# Altium schematic symbol library 2.0 - STM8 L系列单片机.SchLib: 79 symbols (part 1 of 3)
Pins are listed as number, name and electrical type; pins without a type are passive.

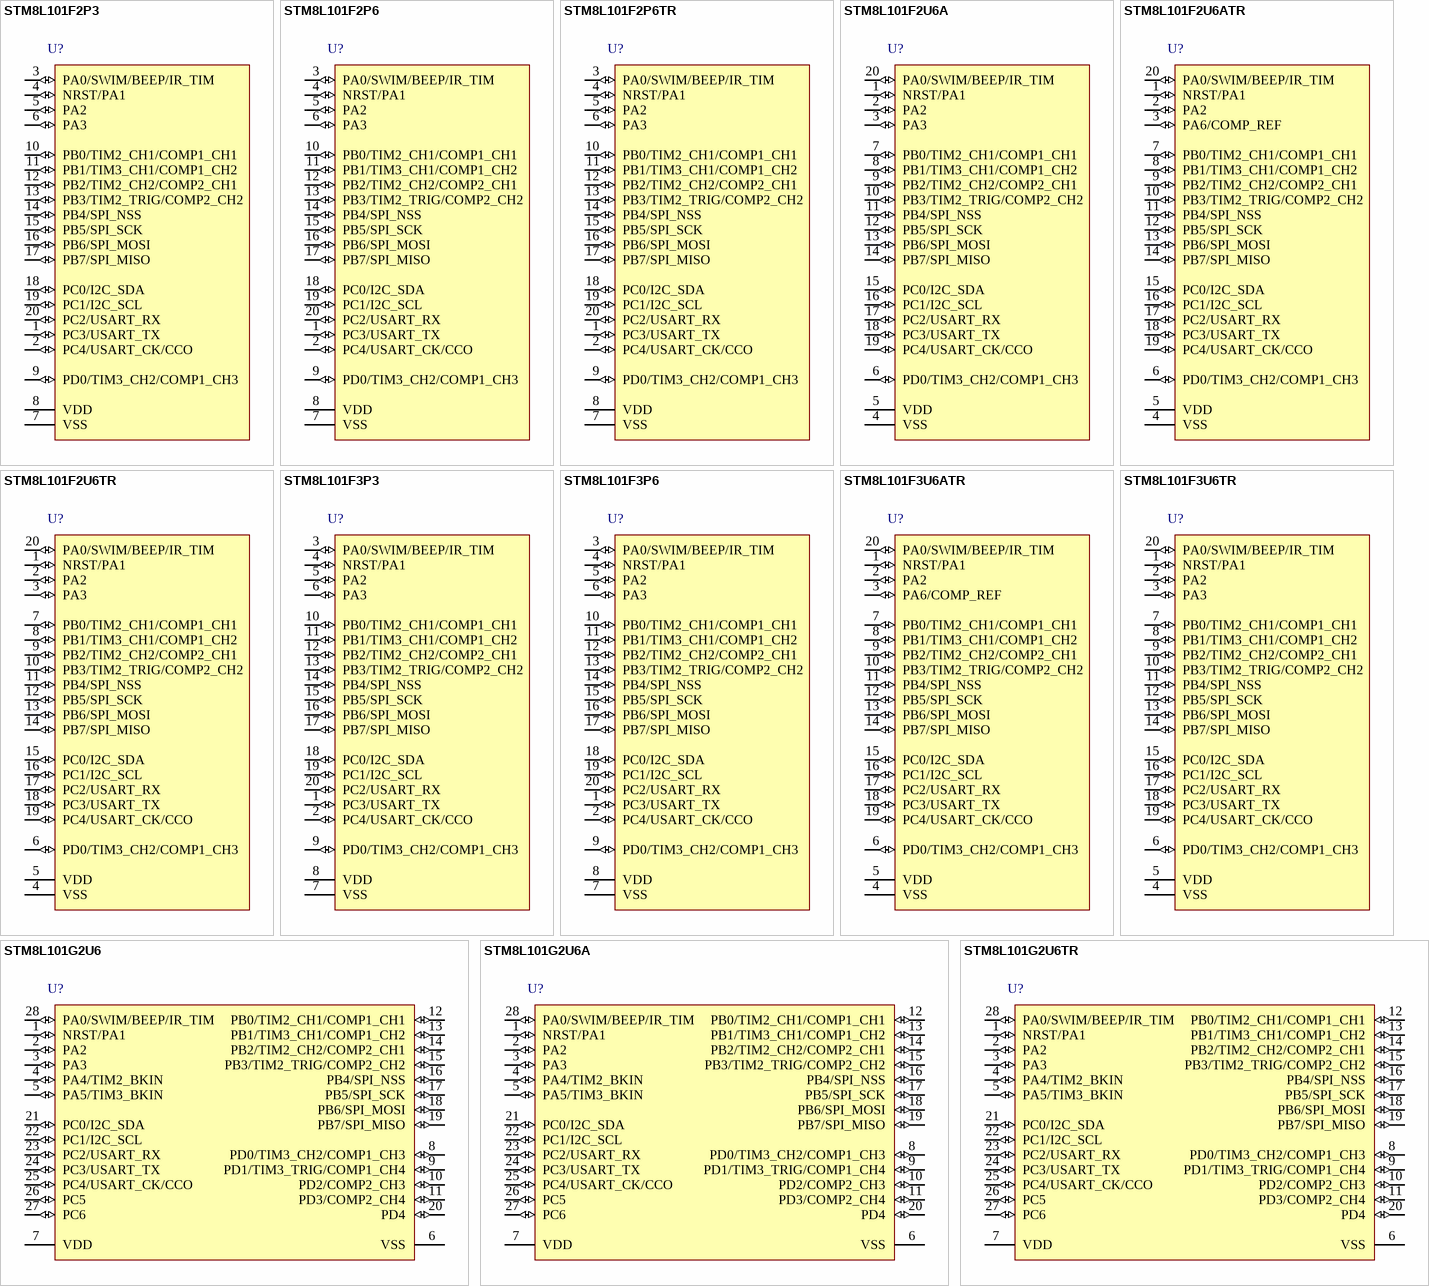
[diagram p0: symbols STM8L101F2P3 to STM8L101G2U6TR]

## STM8L101F2P3
designator U?
STM8L ARM-based EnergyLite 8-bit MCU, 4 kB Flash, 1.5 kB Internal RAM, -40 to +85癈 Temperature, 20-pin TSSOP, Tube; 封装库来自淘宝卖家ID：黄晶宝石: 其他店铺购入均为盗版假冒封装库; PackageVersion: 2010; PackageReference: TSSOP20; PackageDescription: 20-Pin Thin Shrink Small Package Outline 0.65 mm Pitch; ComponentLink1Description: Manufacturer URL; ComponentLink1URL: http://www.st.com/; ComponentLink2Description: STM8L101 Datasheet; ComponentLink2URL: http://www.st.com/internet/com/TECHNICAL_RESOURCES/TECHNICAL_LITERATURE/DATASHEET/CD00220591.pdf; ComponentLink3Description: STM8L Family Web Page; ComponentLink3URL: http://www.st.com/internet/mcu/subclass/1381.jsp
footprint TSSOP20_N (Manufacturer "STMicroelectronics" not found)
footprint TSSOP20_L (TSOP, 20-Leads, Body 6.5x4.4mm, Pitch 0.65mm, IPC High Density)
footprint TSSOP20_M (TSOP, 20-Leads, Body 6.5x4.4mm, Pitch 0.65mm, IPC Low Density)
pins: 1 PC3/USART_TX (io), 2 PC4/USART_CK/CCO (io), 3 PA0/SWIM/BEEP/IR_TIM (io), 4 NRST/PA1 (io), 5 PA2 (io), 6 PA3 (io), 7 VSS (power), 8 VDD (power), 9 PD0/TIM3_CH2/COMP1_CH3 (io), 10 PB0/TIM2_CH1/COMP1_CH1 (io), 11 PB1/TIM3_CH1/COMP1_CH2 (io), 12 PB2/TIM2_CH2/COMP2_CH1 (io), 13 PB3/TIM2_TRIG/COMP2_CH2 (io), 14 PB4/SPI_NSS (io), 15 PB5/SPI_SCK (io), 16 PB6/SPI_MOSI (io), 17 PB7/SPI_MISO (io), 18 PC0/I2C_SDA (io), 19 PC1/I2C_SCL (io), 20 PC2/USART_RX (io)

## STM8L101F2P6
designator U?
STM8L ARM-based EnergyLite 8-bit MCU, 4 kB Flash, 1.5 kB Internal RAM, -40 to +85癈 Temperature, 20-pin TSSOP, Tube; 封装库来自淘宝卖家ID：黄晶宝石: 其他店铺购入均为盗版假冒封装库; PackageVersion: 2010; PackageReference: TSSOP20; PackageDescription: 20-Pin Thin Shrink Small Package Outline 0.65 mm Pitch; ComponentLink1Description: Manufacturer URL; ComponentLink1URL: http://www.st.com/; ComponentLink2Description: STM8L101 Datasheet; ComponentLink2URL: http://www.st.com/internet/com/TECHNICAL_RESOURCES/TECHNICAL_LITERATURE/DATASHEET/CD00220591.pdf; ComponentLink3Description: STM8L Family Web Page; ComponentLink3URL: http://www.st.com/internet/mcu/subclass/1381.jsp
footprint TSSOP20_N (Manufacturer "STMicroelectronics" not found)
footprint TSSOP20_L (TSOP, 20-Leads, Body 6.5x4.4mm, Pitch 0.65mm, IPC High Density)
footprint TSSOP20_M (TSOP, 20-Leads, Body 6.5x4.4mm, Pitch 0.65mm, IPC Low Density)
pins: 1 PC3/USART_TX (io), 2 PC4/USART_CK/CCO (io), 3 PA0/SWIM/BEEP/IR_TIM (io), 4 NRST/PA1 (io), 5 PA2 (io), 6 PA3 (io), 7 VSS (power), 8 VDD (power), 9 PD0/TIM3_CH2/COMP1_CH3 (io), 10 PB0/TIM2_CH1/COMP1_CH1 (io), 11 PB1/TIM3_CH1/COMP1_CH2 (io), 12 PB2/TIM2_CH2/COMP2_CH1 (io), 13 PB3/TIM2_TRIG/COMP2_CH2 (io), 14 PB4/SPI_NSS (io), 15 PB5/SPI_SCK (io), 16 PB6/SPI_MOSI (io), 17 PB7/SPI_MISO (io), 18 PC0/I2C_SDA (io), 19 PC1/I2C_SCL (io), 20 PC2/USART_RX (io)

## STM8L101F2P6TR
designator U?
STM8L ARM-based EnergyLite 8-bit MCU, 4 kB Flash, 1.5 kB Internal RAM, -40 to +85癈 Temperature, 20-pin TSSOP, Tape and Reel; 封装库来自淘宝卖家ID：黄晶宝石: 其他店铺购入均为盗版假冒封装库; PackageVersion: 2010; PackageReference: TSSOP20; PackageDescription: 20-Pin Thin Shrink Small Package Outline 0.65 mm Pitch; ComponentLink1Description: Manufacturer URL; ComponentLink1URL: http://www.st.com/; ComponentLink2Description: STM8L101 Datasheet; ComponentLink2URL: http://www.st.com/internet/com/TECHNICAL_RESOURCES/TECHNICAL_LITERATURE/DATASHEET/CD00220591.pdf; ComponentLink3Description: STM8L Family Web Page; ComponentLink3URL: http://www.st.com/internet/mcu/subclass/1381.jsp
footprint TSSOP20_N (Manufacturer "STMicroelectronics" not found)
footprint TSSOP20_L (TSOP, 20-Leads, Body 6.5x4.4mm, Pitch 0.65mm, IPC High Density)
footprint TSSOP20_M (TSOP, 20-Leads, Body 6.5x4.4mm, Pitch 0.65mm, IPC Low Density)
pins: 1 PC3/USART_TX (io), 2 PC4/USART_CK/CCO (io), 3 PA0/SWIM/BEEP/IR_TIM (io), 4 NRST/PA1 (io), 5 PA2 (io), 6 PA3 (io), 7 VSS (power), 8 VDD (power), 9 PD0/TIM3_CH2/COMP1_CH3 (io), 10 PB0/TIM2_CH1/COMP1_CH1 (io), 11 PB1/TIM3_CH1/COMP1_CH2 (io), 12 PB2/TIM2_CH2/COMP2_CH1 (io), 13 PB3/TIM2_TRIG/COMP2_CH2 (io), 14 PB4/SPI_NSS (io), 15 PB5/SPI_SCK (io), 16 PB6/SPI_MOSI (io), 17 PB7/SPI_MISO (io), 18 PC0/I2C_SDA (io), 19 PC1/I2C_SCL (io), 20 PC2/USART_RX (io)

## STM8L101F2U6A
designator U?
STM8L ARM-based EnergyLite 8-bit MCU, 4 kB Flash, 1.5 kB Internal RAM, -40 to +85癈 Temperature, 20-pin UFQFPN, Tube, COMP_REF available; 封装库来自淘宝卖家ID：黄晶宝石: 其他店铺购入均为盗版假冒封装库; PackageVersion: 26/04/2010; PackageReference: UFQFPN20; PackageDescription: 20-Pin Ultra Thin Fine Pitch Quad Flat No-Lead, 3 x 3 x 0.55 mm Body, 0.5 mm Pitch; ComponentLink1Description: Manufacturer URL; ComponentLink1URL: http://www.st.com/; ComponentLink2Description: STM8L101 Datasheet; ComponentLink2URL: http://www.st.com/internet/com/TECHNICAL_RESOURCES/TECHNICAL_LITERATURE/DATASHEET/CD00220591.pdf; ComponentLink3Description: STM8L Family Web Page; ComponentLink3URL: http://www.st.com/internet/mcu/subclass/1381.jsp
footprint UFQFPN20_V (Manufacturer "STMicroelectronics" not found)
pins: 1 NRST/PA1 (io), 2 PA2 (io), 3 PA3 (io), 4 VSS (power), 5 VDD (power), 6 PD0/TIM3_CH2/COMP1_CH3 (io), 7 PB0/TIM2_CH1/COMP1_CH1 (io), 8 PB1/TIM3_CH1/COMP1_CH2 (io), 9 PB2/TIM2_CH2/COMP2_CH1 (io), 10 PB3/TIM2_TRIG/COMP2_CH2 (io), 11 PB4/SPI_NSS (io), 12 PB5/SPI_SCK (io), 13 PB6/SPI_MOSI (io), 14 PB7/SPI_MISO (io), 15 PC0/I2C_SDA (io), 16 PC1/I2C_SCL (io), 17 PC2/USART_RX (io), 18 PC3/USART_TX (io), 19 PC4/USART_CK/CCO (io), 20 PA0/SWIM/BEEP/IR_TIM (io)

## STM8L101F2U6ATR
designator U?
STM8L ARM-based EnergyLite 8-bit MCU, 4 kB Flash, 1.5 kB Internal RAM, -40 to +85癈 Temperature, 20-pin UFQFPN, Tape and Reel, COMP_REF available; 封装库来自淘宝卖家ID：黄晶宝石: 其他店铺购入均为盗版假冒封装库; PackageVersion: 26/04/2010; PackageReference: UFQFPN20; PackageDescription: 20-Pin Ultra Thin Fine Pitch Quad Flat No-Lead, 3 x 3 x 0.55 mm Body, 0.5 mm Pitch; ComponentLink1Description: Manufacturer URL; ComponentLink1URL: http://www.st.com/; ComponentLink2Description: STM8L101 Datasheet; ComponentLink2URL: http://www.st.com/internet/com/TECHNICAL_RESOURCES/TECHNICAL_LITERATURE/DATASHEET/CD00220591.pdf; ComponentLink3Description: STM8L Family Web Page; ComponentLink3URL: http://www.st.com/internet/mcu/subclass/1381.jsp
footprint UFQFPN20_V (Manufacturer "STMicroelectronics" not found)
pins: 1 NRST/PA1 (io), 2 PA2 (io), 3 PA6/COMP_REF (io), 4 VSS (power), 5 VDD (power), 6 PD0/TIM3_CH2/COMP1_CH3 (io), 7 PB0/TIM2_CH1/COMP1_CH1 (io), 8 PB1/TIM3_CH1/COMP1_CH2 (io), 9 PB2/TIM2_CH2/COMP2_CH1 (io), 10 PB3/TIM2_TRIG/COMP2_CH2 (io), 11 PB4/SPI_NSS (io), 12 PB5/SPI_SCK (io), 13 PB6/SPI_MOSI (io), 14 PB7/SPI_MISO (io), 15 PC0/I2C_SDA (io), 16 PC1/I2C_SCL (io), 17 PC2/USART_RX (io), 18 PC3/USART_TX (io), 19 PC4/USART_CK/CCO (io), 20 PA0/SWIM/BEEP/IR_TIM (io)

## STM8L101F2U6TR
designator U?
STM8L ARM-based EnergyLite 8-bit MCU, 4 kB Flash, 1.5 kB Internal RAM, -40 to +85癈 Temperature, 20-pin UFQFPN, Tape and Reel; 封装库来自淘宝卖家ID：黄晶宝石: 其他店铺购入均为盗版假冒封装库; PackageVersion: 26/04/2010; PackageReference: UFQFPN20; PackageDescription: 20-Pin Ultra Thin Fine Pitch Quad Flat No-Lead, 3 x 3 x 0.55 mm Body, 0.5 mm Pitch; ComponentLink1Description: Manufacturer URL; ComponentLink1URL: http://www.st.com/; ComponentLink2Description: STM8L101 Datasheet; ComponentLink2URL: http://www.st.com/internet/com/TECHNICAL_RESOURCES/TECHNICAL_LITERATURE/DATASHEET/CD00220591.pdf; ComponentLink3Description: STM8L Family Web Page; ComponentLink3URL: http://www.st.com/internet/mcu/subclass/1381.jsp
footprint UFQFPN20_V (Manufacturer "STMicroelectronics" not found)
pins: 1 NRST/PA1 (io), 2 PA2 (io), 3 PA3 (io), 4 VSS (power), 5 VDD (power), 6 PD0/TIM3_CH2/COMP1_CH3 (io), 7 PB0/TIM2_CH1/COMP1_CH1 (io), 8 PB1/TIM3_CH1/COMP1_CH2 (io), 9 PB2/TIM2_CH2/COMP2_CH1 (io), 10 PB3/TIM2_TRIG/COMP2_CH2 (io), 11 PB4/SPI_NSS (io), 12 PB5/SPI_SCK (io), 13 PB6/SPI_MOSI (io), 14 PB7/SPI_MISO (io), 15 PC0/I2C_SDA (io), 16 PC1/I2C_SCL (io), 17 PC2/USART_RX (io), 18 PC3/USART_TX (io), 19 PC4/USART_CK/CCO (io), 20 PA0/SWIM/BEEP/IR_TIM (io)

## STM8L101F3P3
designator U?
STM8L ARM-based EnergyLite 8-bit MCU, 8 kB Flash, 1.5 kB Internal RAM, -40 to +125癈 Temperature, 20-pin TSSOP, Tube; 封装库来自淘宝卖家ID：黄晶宝石: 其他店铺购入均为盗版假冒封装库; PackageVersion: 2010; PackageReference: TSSOP20; PackageDescription: 20-Pin Thin Shrink Small Package Outline 0.65 mm Pitch; ComponentLink1Description: Manufacturer URL; ComponentLink1URL: http://www.st.com/; ComponentLink2Description: STM8L101 Datasheet; ComponentLink2URL: http://www.st.com/internet/com/TECHNICAL_RESOURCES/TECHNICAL_LITERATURE/DATASHEET/CD00220591.pdf; ComponentLink3Description: STM8L Family Web Page; ComponentLink3URL: http://www.st.com/internet/mcu/subclass/1381.jsp
footprint TSSOP20_N (Manufacturer "STMicroelectronics" not found)
footprint TSSOP20_L (TSOP, 20-Leads, Body 6.5x4.4mm, Pitch 0.65mm, IPC High Density)
footprint TSSOP20_M (TSOP, 20-Leads, Body 6.5x4.4mm, Pitch 0.65mm, IPC Low Density)
pins: 1 PC3/USART_TX (io), 2 PC4/USART_CK/CCO (io), 3 PA0/SWIM/BEEP/IR_TIM (io), 4 NRST/PA1 (io), 5 PA2 (io), 6 PA3 (io), 7 VSS (power), 8 VDD (power), 9 PD0/TIM3_CH2/COMP1_CH3 (io), 10 PB0/TIM2_CH1/COMP1_CH1 (io), 11 PB1/TIM3_CH1/COMP1_CH2 (io), 12 PB2/TIM2_CH2/COMP2_CH1 (io), 13 PB3/TIM2_TRIG/COMP2_CH2 (io), 14 PB4/SPI_NSS (io), 15 PB5/SPI_SCK (io), 16 PB6/SPI_MOSI (io), 17 PB7/SPI_MISO (io), 18 PC0/I2C_SDA (io), 19 PC1/I2C_SCL (io), 20 PC2/USART_RX (io)

## STM8L101F3P6
designator U?
STM8L ARM-based EnergyLite 8-bit MCU, 8 kB Flash, 1.5 kB Internal RAM, -40 to +85癈 Temperature, 20-pin TSSOP, Tube; 封装库来自淘宝卖家ID：黄晶宝石: 其他店铺购入均为盗版假冒封装库; PackageVersion: 2010; PackageReference: TSSOP20; PackageDescription: 20-Pin Thin Shrink Small Package Outline 0.65 mm Pitch; ComponentLink1Description: Manufacturer URL; ComponentLink1URL: http://www.st.com/; ComponentLink2Description: STM8L101 Datasheet; ComponentLink2URL: http://www.st.com/internet/com/TECHNICAL_RESOURCES/TECHNICAL_LITERATURE/DATASHEET/CD00220591.pdf; ComponentLink3Description: STM8L Family Web Page; ComponentLink3URL: http://www.st.com/internet/mcu/subclass/1381.jsp
footprint TSSOP20_N (Manufacturer "STMicroelectronics" not found)
footprint TSSOP20_L (TSOP, 20-Leads, Body 6.5x4.4mm, Pitch 0.65mm, IPC High Density)
footprint TSSOP20_M (TSOP, 20-Leads, Body 6.5x4.4mm, Pitch 0.65mm, IPC Low Density)
pins: 1 PC3/USART_TX (io), 2 PC4/USART_CK/CCO (io), 3 PA0/SWIM/BEEP/IR_TIM (io), 4 NRST/PA1 (io), 5 PA2 (io), 6 PA3 (io), 7 VSS (power), 8 VDD (power), 9 PD0/TIM3_CH2/COMP1_CH3 (io), 10 PB0/TIM2_CH1/COMP1_CH1 (io), 11 PB1/TIM3_CH1/COMP1_CH2 (io), 12 PB2/TIM2_CH2/COMP2_CH1 (io), 13 PB3/TIM2_TRIG/COMP2_CH2 (io), 14 PB4/SPI_NSS (io), 15 PB5/SPI_SCK (io), 16 PB6/SPI_MOSI (io), 17 PB7/SPI_MISO (io), 18 PC0/I2C_SDA (io), 19 PC1/I2C_SCL (io), 20 PC2/USART_RX (io)

## STM8L101F3U6ATR
designator U?
STM8L ARM-based EnergyLite 8-bit MCU, 8 kB Flash, 1.5 kB Internal RAM, -40 to +85癈 Temperature, 20-pin UFQFPN, Tape and Reel, COMP_REF available; 封装库来自淘宝卖家ID：黄晶宝石: 其他店铺购入均为盗版假冒封装库; PackageVersion: 26/04/2010; PackageReference: UFQFPN20; PackageDescription: 20-Pin Ultra Thin Fine Pitch Quad Flat No-Lead, 3 x 3 x 0.55 mm Body, 0.5 mm Pitch; ComponentLink1Description: Manufacturer URL; ComponentLink1URL: http://www.st.com/; ComponentLink2Description: STM8L101 Datasheet; ComponentLink2URL: http://www.st.com/internet/com/TECHNICAL_RESOURCES/TECHNICAL_LITERATURE/DATASHEET/CD00220591.pdf; ComponentLink3Description: STM8L Family Web Page; ComponentLink3URL: http://www.st.com/internet/mcu/subclass/1381.jsp
footprint UFQFPN20_V (Manufacturer "STMicroelectronics" not found)
pins: 1 NRST/PA1 (io), 2 PA2 (io), 3 PA6/COMP_REF (io), 4 VSS (power), 5 VDD (power), 6 PD0/TIM3_CH2/COMP1_CH3 (io), 7 PB0/TIM2_CH1/COMP1_CH1 (io), 8 PB1/TIM3_CH1/COMP1_CH2 (io), 9 PB2/TIM2_CH2/COMP2_CH1 (io), 10 PB3/TIM2_TRIG/COMP2_CH2 (io), 11 PB4/SPI_NSS (io), 12 PB5/SPI_SCK (io), 13 PB6/SPI_MOSI (io), 14 PB7/SPI_MISO (io), 15 PC0/I2C_SDA (io), 16 PC1/I2C_SCL (io), 17 PC2/USART_RX (io), 18 PC3/USART_TX (io), 19 PC4/USART_CK/CCO (io), 20 PA0/SWIM/BEEP/IR_TIM (io)

## STM8L101F3U6TR
designator U?
STM8L ARM-based EnergyLite 8-bit MCU, 8 kB Flash, 1.5 kB Internal RAM, -40 to +85癈 Temperature, 20-pin UFQFPN, Tape and Reel; 封装库来自淘宝卖家ID：黄晶宝石: 其他店铺购入均为盗版假冒封装库; PackageVersion: 26/04/2010; PackageReference: UFQFPN20; PackageDescription: 20-Pin Ultra Thin Fine Pitch Quad Flat No-Lead, 3 x 3 x 0.55 mm Body, 0.5 mm Pitch; ComponentLink1Description: Manufacturer URL; ComponentLink1URL: http://www.st.com/; ComponentLink2Description: STM8L101 Datasheet; ComponentLink2URL: http://www.st.com/internet/com/TECHNICAL_RESOURCES/TECHNICAL_LITERATURE/DATASHEET/CD00220591.pdf; ComponentLink3Description: STM8L Family Web Page; ComponentLink3URL: http://www.st.com/internet/mcu/subclass/1381.jsp
footprint UFQFPN20_V (Manufacturer "STMicroelectronics" not found)
pins: 1 NRST/PA1 (io), 2 PA2 (io), 3 PA3 (io), 4 VSS (power), 5 VDD (power), 6 PD0/TIM3_CH2/COMP1_CH3 (io), 7 PB0/TIM2_CH1/COMP1_CH1 (io), 8 PB1/TIM3_CH1/COMP1_CH2 (io), 9 PB2/TIM2_CH2/COMP2_CH1 (io), 10 PB3/TIM2_TRIG/COMP2_CH2 (io), 11 PB4/SPI_NSS (io), 12 PB5/SPI_SCK (io), 13 PB6/SPI_MOSI (io), 14 PB7/SPI_MISO (io), 15 PC0/I2C_SDA (io), 16 PC1/I2C_SCL (io), 17 PC2/USART_RX (io), 18 PC3/USART_TX (io), 19 PC4/USART_CK/CCO (io), 20 PA0/SWIM/BEEP/IR_TIM (io)

## STM8L101G2U6
designator U?
STM8L ARM-based EnergyLite 8-bit MCU, 4 kB Flash, 1.5 kB Internal RAM, -40 to +85癈 Temperature, 28-pin UFQFPN, Tray; 封装库来自淘宝卖家ID：黄晶宝石: 其他店铺购入均为盗版假冒封装库; PackageVersion: 26/04/2010; PackageReference: UFQFPN28; PackageDescription: 28-Pin Ultra Thin Fine Pitch Quad Flat No-Lead, 4 x 4 x 0.55 mm Body, 0.5 mm Pitch; ComponentLink1Description: Manufacturer URL; ComponentLink1URL: http://www.st.com/; ComponentLink2Description: STM8L101 Datasheet; ComponentLink2URL: http://www.st.com/internet/com/TECHNICAL_RESOURCES/TECHNICAL_LITERATURE/DATASHEET/CD00220591.pdf; ComponentLink3Description: STM8L Family Web Page; ComponentLink3URL: http://www.st.com/internet/mcu/subclass/1381.jsp
footprint UFQFPN28_V (Manufacturer "STMicroelectronics" not found)
pins: 1 NRST/PA1 (io), 2 PA2 (io), 3 PA3 (io), 4 PA4/TIM2_BKIN (io), 5 PA5/TIM3_BKIN (io), 6 VSS (power), 7 VDD (power), 8 PD0/TIM3_CH2/COMP1_CH3 (io), 9 PD1/TIM3_TRIG/COMP1_CH4 (io), 10 PD2/COMP2_CH3 (io), 11 PD3/COMP2_CH4 (io), 12 PB0/TIM2_CH1/COMP1_CH1 (io), 13 PB1/TIM3_CH1/COMP1_CH2 (io), 14 PB2/TIM2_CH2/COMP2_CH1 (io), 15 PB3/TIM2_TRIG/COMP2_CH2 (io), 16 PB4/SPI_NSS (io), 17 PB5/SPI_SCK (io), 18 PB6/SPI_MOSI (io), 19 PB7/SPI_MISO (io), 20 PD4 (io), 21 PC0/I2C_SDA (io), 22 PC1/I2C_SCL (io), 23 PC2/USART_RX (io), 24 PC3/USART_TX (io), 25 PC4/USART_CK/CCO (io), 26 PC5 (io), 27 PC6 (io), 28 PA0/SWIM/BEEP/IR_TIM (io)

## STM8L101G2U6A
designator U?
STM8L ARM-based EnergyLite 8-bit MCU, 4 kB Flash, 1.5 kB Internal RAM, -40 to +85癈 Temperature, 28-pin UFQFPN, Tray, COMP_REF available; 封装库来自淘宝卖家ID：黄晶宝石: 其他店铺购入均为盗版假冒封装库; PackageVersion: 26/04/2010; PackageReference: UFQFPN28; PackageDescription: 28-Pin Ultra Thin Fine Pitch Quad Flat No-Lead, 4 x 4 x 0.55 mm Body, 0.5 mm Pitch; ComponentLink1Description: Manufacturer URL; ComponentLink1URL: http://www.st.com/; ComponentLink2Description: STM8L101 Datasheet; ComponentLink2URL: http://www.st.com/internet/com/TECHNICAL_RESOURCES/TECHNICAL_LITERATURE/DATASHEET/CD00220591.pdf; ComponentLink3Description: STM8L Family Web Page; ComponentLink3URL: http://www.st.com/internet/mcu/subclass/1381.jsp
footprint UFQFPN28_V (Manufacturer "STMicroelectronics" not found)
pins: 1 NRST/PA1 (io), 2 PA2 (io), 3 PA3 (io), 4 PA4/TIM2_BKIN (io), 5 PA5/TIM3_BKIN (io), 6 VSS (power), 7 VDD (power), 8 PD0/TIM3_CH2/COMP1_CH3 (io), 9 PD1/TIM3_TRIG/COMP1_CH4 (io), 10 PD2/COMP2_CH3 (io), 11 PD3/COMP2_CH4 (io), 12 PB0/TIM2_CH1/COMP1_CH1 (io), 13 PB1/TIM3_CH1/COMP1_CH2 (io), 14 PB2/TIM2_CH2/COMP2_CH1 (io), 15 PB3/TIM2_TRIG/COMP2_CH2 (io), 16 PB4/SPI_NSS (io), 17 PB5/SPI_SCK (io), 18 PB6/SPI_MOSI (io), 19 PB7/SPI_MISO (io), 20 PD4 (io), 21 PC0/I2C_SDA (io), 22 PC1/I2C_SCL (io), 23 PC2/USART_RX (io), 24 PC3/USART_TX (io), 25 PC4/USART_CK/CCO (io), 26 PC5 (io), 27 PC6 (io), 28 PA0/SWIM/BEEP/IR_TIM (io)

## STM8L101G2U6TR
designator U?
STM8L ARM-based EnergyLite 8-bit MCU, 4 kB Flash, 1.5 kB Internal RAM, -40 to +85癈 Temperature, 28-pin UFQFPN, Tape and Reel; 封装库来自淘宝卖家ID：黄晶宝石: 其他店铺购入均为盗版假冒封装库; PackageVersion: 26/04/2010; PackageReference: UFQFPN28; PackageDescription: 28-Pin Ultra Thin Fine Pitch Quad Flat No-Lead, 4 x 4 x 0.55 mm Body, 0.5 mm Pitch; ComponentLink1Description: Manufacturer URL; ComponentLink1URL: http://www.st.com/; ComponentLink2Description: STM8L101 Datasheet; ComponentLink2URL: http://www.st.com/internet/com/TECHNICAL_RESOURCES/TECHNICAL_LITERATURE/DATASHEET/CD00220591.pdf; ComponentLink3Description: STM8L Family Web Page; ComponentLink3URL: http://www.st.com/internet/mcu/subclass/1381.jsp
footprint UFQFPN28_V (Manufacturer "STMicroelectronics" not found)
pins: 1 NRST/PA1 (io), 2 PA2 (io), 3 PA3 (io), 4 PA4/TIM2_BKIN (io), 5 PA5/TIM3_BKIN (io), 6 VSS (power), 7 VDD (power), 8 PD0/TIM3_CH2/COMP1_CH3 (io), 9 PD1/TIM3_TRIG/COMP1_CH4 (io), 10 PD2/COMP2_CH3 (io), 11 PD3/COMP2_CH4 (io), 12 PB0/TIM2_CH1/COMP1_CH1 (io), 13 PB1/TIM3_CH1/COMP1_CH2 (io), 14 PB2/TIM2_CH2/COMP2_CH1 (io), 15 PB3/TIM2_TRIG/COMP2_CH2 (io), 16 PB4/SPI_NSS (io), 17 PB5/SPI_SCK (io), 18 PB6/SPI_MOSI (io), 19 PB7/SPI_MISO (io), 20 PD4 (io), 21 PC0/I2C_SDA (io), 22 PC1/I2C_SCL (io), 23 PC2/USART_RX (io), 24 PC3/USART_TX (io), 25 PC4/USART_CK/CCO (io), 26 PC5 (io), 27 PC6 (io), 28 PA0/SWIM/BEEP/IR_TIM (io)

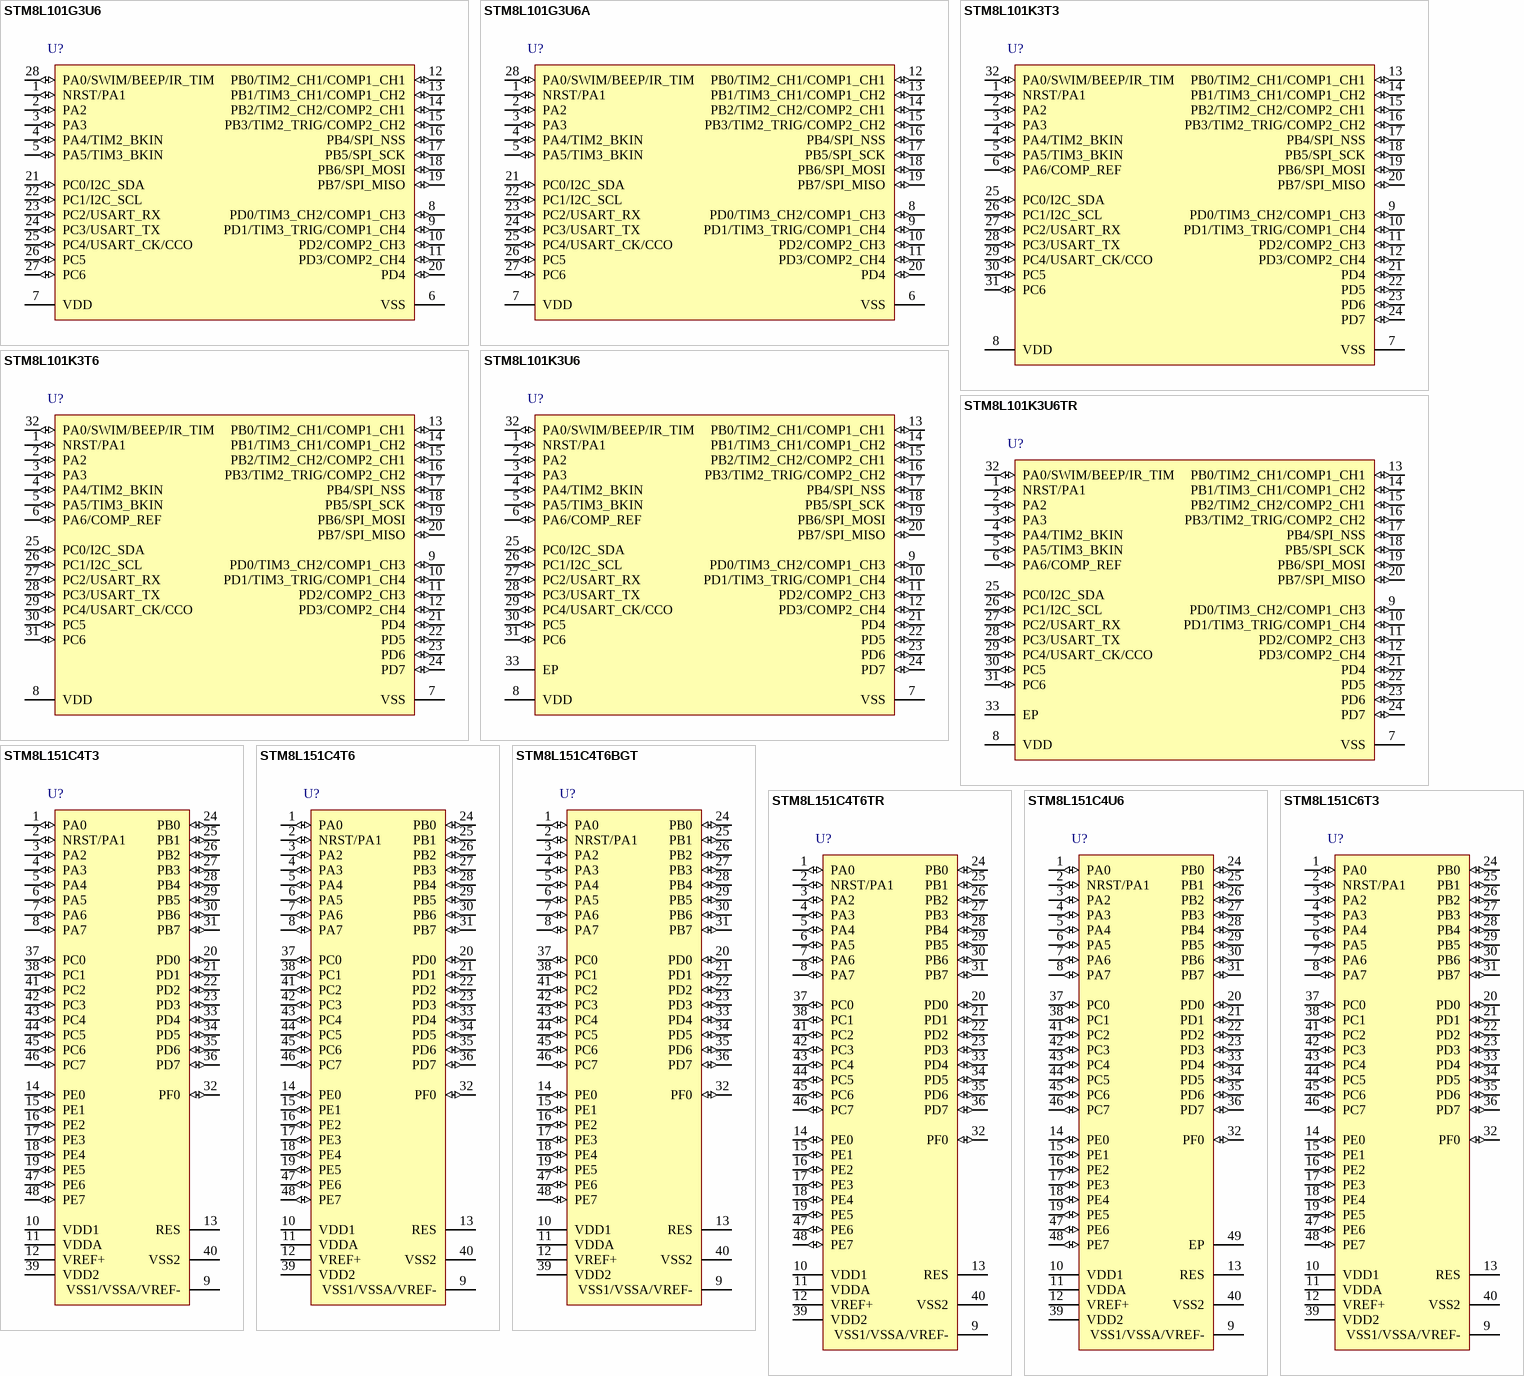
[diagram p1: symbols STM8L101G3U6 to STM8L151C6T3]

## STM8L101G3U6
designator U?
STM8L ARM-based EnergyLite 8-bit MCU, 8 kB Flash, 1.5 kB Internal RAM, -40 to +85癈 Temperature, 28-pin UFQFPN, Tray; 封装库来自淘宝卖家ID：黄晶宝石: 其他店铺购入均为盗版假冒封装库; PackageVersion: 26/04/2010; PackageReference: UFQFPN28; PackageDescription: 28-Pin Ultra Thin Fine Pitch Quad Flat No-Lead, 4 x 4 x 0.55 mm Body, 0.5 mm Pitch; ComponentLink1Description: Manufacturer URL; ComponentLink1URL: http://www.st.com/; ComponentLink2Description: STM8L101 Datasheet; ComponentLink2URL: http://www.st.com/internet/com/TECHNICAL_RESOURCES/TECHNICAL_LITERATURE/DATASHEET/CD00220591.pdf; ComponentLink3Description: STM8L Family Web Page; ComponentLink3URL: http://www.st.com/internet/mcu/subclass/1381.jsp
footprint UFQFPN28_V (Manufacturer "STMicroelectronics" not found)
pins: 1 NRST/PA1 (io), 2 PA2 (io), 3 PA3 (io), 4 PA4/TIM2_BKIN (io), 5 PA5/TIM3_BKIN (io), 6 VSS (power), 7 VDD (power), 8 PD0/TIM3_CH2/COMP1_CH3 (io), 9 PD1/TIM3_TRIG/COMP1_CH4 (io), 10 PD2/COMP2_CH3 (io), 11 PD3/COMP2_CH4 (io), 12 PB0/TIM2_CH1/COMP1_CH1 (io), 13 PB1/TIM3_CH1/COMP1_CH2 (io), 14 PB2/TIM2_CH2/COMP2_CH1 (io), 15 PB3/TIM2_TRIG/COMP2_CH2 (io), 16 PB4/SPI_NSS (io), 17 PB5/SPI_SCK (io), 18 PB6/SPI_MOSI (io), 19 PB7/SPI_MISO (io), 20 PD4 (io), 21 PC0/I2C_SDA (io), 22 PC1/I2C_SCL (io), 23 PC2/USART_RX (io), 24 PC3/USART_TX (io), 25 PC4/USART_CK/CCO (io), 26 PC5 (io), 27 PC6 (io), 28 PA0/SWIM/BEEP/IR_TIM (io)

## STM8L101G3U6A
designator U?
STM8L ARM-based EnergyLite 8-bit MCU, 8 kB Flash, 1.5 kB Internal RAM, -40 to +85癈 Temperature, 28-pin UFQFPN, Tray, COMP_REF available; 封装库来自淘宝卖家ID：黄晶宝石: 其他店铺购入均为盗版假冒封装库; PackageVersion: 26/04/2010; PackageReference: UFQFPN28; PackageDescription: 28-Pin Ultra Thin Fine Pitch Quad Flat No-Lead, 4 x 4 x 0.55 mm Body, 0.5 mm Pitch; ComponentLink1Description: Manufacturer URL; ComponentLink1URL: http://www.st.com/; ComponentLink2Description: STM8L101 Datasheet; ComponentLink2URL: http://www.st.com/internet/com/TECHNICAL_RESOURCES/TECHNICAL_LITERATURE/DATASHEET/CD00220591.pdf; ComponentLink3Description: STM8L Family Web Page; ComponentLink3URL: http://www.st.com/internet/mcu/subclass/1381.jsp
footprint UFQFPN28_V (Manufacturer "STMicroelectronics" not found)
pins: 1 NRST/PA1 (io), 2 PA2 (io), 3 PA3 (io), 4 PA4/TIM2_BKIN (io), 5 PA5/TIM3_BKIN (io), 6 VSS (power), 7 VDD (power), 8 PD0/TIM3_CH2/COMP1_CH3 (io), 9 PD1/TIM3_TRIG/COMP1_CH4 (io), 10 PD2/COMP2_CH3 (io), 11 PD3/COMP2_CH4 (io), 12 PB0/TIM2_CH1/COMP1_CH1 (io), 13 PB1/TIM3_CH1/COMP1_CH2 (io), 14 PB2/TIM2_CH2/COMP2_CH1 (io), 15 PB3/TIM2_TRIG/COMP2_CH2 (io), 16 PB4/SPI_NSS (io), 17 PB5/SPI_SCK (io), 18 PB6/SPI_MOSI (io), 19 PB7/SPI_MISO (io), 20 PD4 (io), 21 PC0/I2C_SDA (io), 22 PC1/I2C_SCL (io), 23 PC2/USART_RX (io), 24 PC3/USART_TX (io), 25 PC4/USART_CK/CCO (io), 26 PC5 (io), 27 PC6 (io), 28 PA0/SWIM/BEEP/IR_TIM (io)

## STM8L101K3T3
designator U?
STM8L ARM-based EnergyLite 8-bit MCU, 8 kB Flash, 1.5 kB Internal RAM, -40 to +125癈 Temperature, 32-pin LQFP, Tray; 封装库来自淘宝卖家ID：黄晶宝石: 其他店铺购入均为盗版假冒封装库; PackageVersion: 2010; PackageReference: LQFP32; PackageDescription: 32-Pin Low Profile Quad Flat Pack, 7 x 7 mm Body, 0.8 mm Pitch; ComponentLink1Description: Manufacturer URL; ComponentLink1URL: http://www.st.com/; ComponentLink2Description: STM8L101 Datasheet; ComponentLink2URL: http://www.st.com/internet/com/TECHNICAL_RESOURCES/TECHNICAL_LITERATURE/DATASHEET/CD00220591.pdf; ComponentLink3Description: STM8L Family Web Page; ComponentLink3URL: http://www.st.com/internet/mcu/subclass/1381.jsp
footprint LQFP32_N (Manufacturer "STMicroelectronics" not found)
footprint LQFP32_L (Thin QFP, 32-Leads, Body 7x7mm, Pitch 0.8mm, IPC High Density)
footprint LQFP32_M (Thin QFP, 32-Leads, Body 7x7mm, Pitch 0.8mm, IPC Low Density)
pins: 1 NRST/PA1 (io), 2 PA2 (io), 3 PA3 (io), 4 PA4/TIM2_BKIN (io), 5 PA5/TIM3_BKIN (io), 6 PA6/COMP_REF (io), 7 VSS (power), 8 VDD (power), 9 PD0/TIM3_CH2/COMP1_CH3 (io), 10 PD1/TIM3_TRIG/COMP1_CH4 (io), 11 PD2/COMP2_CH3 (io), 12 PD3/COMP2_CH4 (io), 13 PB0/TIM2_CH1/COMP1_CH1 (io), 14 PB1/TIM3_CH1/COMP1_CH2 (io), 15 PB2/TIM2_CH2/COMP2_CH1 (io), 16 PB3/TIM2_TRIG/COMP2_CH2 (io), 17 PB4/SPI_NSS (io), 18 PB5/SPI_SCK (io), 19 PB6/SPI_MOSI (io), 20 PB7/SPI_MISO (io), 21 PD4 (io), 22 PD5 (io), 23 PD6 (io), 24 PD7 (io), 25 PC0/I2C_SDA (io), 26 PC1/I2C_SCL (io), 27 PC2/USART_RX (io), 28 PC3/USART_TX (io), 29 PC4/USART_CK/CCO (io), 30 PC5 (io), 31 PC6 (io), 32 PA0/SWIM/BEEP/IR_TIM (io)

## STM8L101K3T6
designator U?
STM8L ARM-based EnergyLite 8-bit MCU, 8 kB Flash, 1.5 kB Internal RAM, -40 to +85癈 Temperature, 32-pin LQFP, Tray; 封装库来自淘宝卖家ID：黄晶宝石: 其他店铺购入均为盗版假冒封装库; PackageVersion: 2010; PackageReference: LQFP32; PackageDescription: 32-Pin Low Profile Quad Flat Pack, 7 x 7 mm Body, 0.8 mm Pitch; ComponentLink1Description: Manufacturer URL; ComponentLink1URL: http://www.st.com/; ComponentLink2Description: STM8L101 Datasheet; ComponentLink2URL: http://www.st.com/internet/com/TECHNICAL_RESOURCES/TECHNICAL_LITERATURE/DATASHEET/CD00220591.pdf; ComponentLink3Description: STM8L Family Web Page; ComponentLink3URL: http://www.st.com/internet/mcu/subclass/1381.jsp
footprint LQFP32_N (Manufacturer "STMicroelectronics" not found)
footprint LQFP32_L (Thin QFP, 32-Leads, Body 7x7mm, Pitch 0.8mm, IPC High Density)
footprint LQFP32_M (Thin QFP, 32-Leads, Body 7x7mm, Pitch 0.8mm, IPC Low Density)
pins: 1 NRST/PA1 (io), 2 PA2 (io), 3 PA3 (io), 4 PA4/TIM2_BKIN (io), 5 PA5/TIM3_BKIN (io), 6 PA6/COMP_REF (io), 7 VSS (power), 8 VDD (power), 9 PD0/TIM3_CH2/COMP1_CH3 (io), 10 PD1/TIM3_TRIG/COMP1_CH4 (io), 11 PD2/COMP2_CH3 (io), 12 PD3/COMP2_CH4 (io), 13 PB0/TIM2_CH1/COMP1_CH1 (io), 14 PB1/TIM3_CH1/COMP1_CH2 (io), 15 PB2/TIM2_CH2/COMP2_CH1 (io), 16 PB3/TIM2_TRIG/COMP2_CH2 (io), 17 PB4/SPI_NSS (io), 18 PB5/SPI_SCK (io), 19 PB6/SPI_MOSI (io), 20 PB7/SPI_MISO (io), 21 PD4 (io), 22 PD5 (io), 23 PD6 (io), 24 PD7 (io), 25 PC0/I2C_SDA (io), 26 PC1/I2C_SCL (io), 27 PC2/USART_RX (io), 28 PC3/USART_TX (io), 29 PC4/USART_CK/CCO (io), 30 PC5 (io), 31 PC6 (io), 32 PA0/SWIM/BEEP/IR_TIM (io)

## STM8L101K3U6
designator U?
STM8L ARM-based EnergyLite 8-bit MCU, 8 kB Flash, 1.5 kB Internal RAM, -40 to +85癈 Temperature, 32-pin UFQFPN, Tray; 封装库来自淘宝卖家ID：黄晶宝石: 其他店铺购入均为盗版假冒封装库; PackageVersion: 2010; PackageReference: UFQFPN32; PackageDescription: 32-Pin Ultra Thin Fine Pitch Quad Flat No-Lead, 5 x 5 X 0.6 mm Body, 0.5 mm Pitch, Exposed Pad; ComponentLink1Description: Manufacturer URL; ComponentLink1URL: http://www.st.com/; ComponentLink2Description: STM8L101 Datasheet; ComponentLink2URL: http://www.st.com/internet/com/TECHNICAL_RESOURCES/TECHNICAL_LITERATURE/DATASHEET/CD00220591.pdf; ComponentLink3Description: STM8L Family Web Page; ComponentLink3URL: http://www.st.com/internet/mcu/subclass/1381.jsp
footprint UFQFPN32_N (Manufacturer "STMicroelectronics" not found)
footprint UFQFPN32_L (QFN, 32-Leads, Body 5x5mm, Pitch 0.5mm, Thermal Pad 3.6x3.6mm, IPC High Density)
footprint UFQFPN32_M (QFN, 32-Leads, Body 5x5mm, Pitch 0.5mm, Thermal Pad 3.6x3.6mm, IPC Low Density)
pins: 1 NRST/PA1 (io), 2 PA2 (io), 3 PA3 (io), 4 PA4/TIM2_BKIN (io), 5 PA5/TIM3_BKIN (io), 6 PA6/COMP_REF (io), 7 VSS (power), 8 VDD (power), 9 PD0/TIM3_CH2/COMP1_CH3 (io), 10 PD1/TIM3_TRIG/COMP1_CH4 (io), 11 PD2/COMP2_CH3 (io), 12 PD3/COMP2_CH4 (io), 13 PB0/TIM2_CH1/COMP1_CH1 (io), 14 PB1/TIM3_CH1/COMP1_CH2 (io), 15 PB2/TIM2_CH2/COMP2_CH1 (io), 16 PB3/TIM2_TRIG/COMP2_CH2 (io), 17 PB4/SPI_NSS (io), 18 PB5/SPI_SCK (io), 19 PB6/SPI_MOSI (io), 20 PB7/SPI_MISO (io), 21 PD4 (io), 22 PD5 (io), 23 PD6 (io), 24 PD7 (io), 25 PC0/I2C_SDA (io), 26 PC1/I2C_SCL (io), 27 PC2/USART_RX (io), 28 PC3/USART_TX (io), 29 PC4/USART_CK/CCO (io), 30 PC5 (io), 31 PC6 (io), 32 PA0/SWIM/BEEP/IR_TIM (io), 33 EP (power)

## STM8L101K3U6TR
designator U?
STM8L ARM-based EnergyLite 8-bit MCU, 8 kB Flash, 1.5 kB Internal RAM, -40 to +85癈 Temperature, 32-pin UFQFPN, Tape and Reel; 封装库来自淘宝卖家ID：黄晶宝石: 其他店铺购入均为盗版假冒封装库; PackageVersion: 2010; PackageReference: UFQFPN32; PackageDescription: 32-Pin Ultra Thin Fine Pitch Quad Flat No-Lead, 5 x 5 X 0.6 mm Body, 0.5 mm Pitch, Exposed Pad; ComponentLink1Description: Manufacturer URL; ComponentLink1URL: http://www.st.com/; ComponentLink2Description: STM8L101 Datasheet; ComponentLink2URL: http://www.st.com/internet/com/TECHNICAL_RESOURCES/TECHNICAL_LITERATURE/DATASHEET/CD00220591.pdf; ComponentLink3Description: STM8L Family Web Page; ComponentLink3URL: http://www.st.com/internet/mcu/subclass/1381.jsp
footprint UFQFPN32_N (Manufacturer "STMicroelectronics" not found)
footprint UFQFPN32_L (QFN, 32-Leads, Body 5x5mm, Pitch 0.5mm, Thermal Pad 3.6x3.6mm, IPC High Density)
footprint UFQFPN32_M (QFN, 32-Leads, Body 5x5mm, Pitch 0.5mm, Thermal Pad 3.6x3.6mm, IPC Low Density)
pins: 1 NRST/PA1 (io), 2 PA2 (io), 3 PA3 (io), 4 PA4/TIM2_BKIN (io), 5 PA5/TIM3_BKIN (io), 6 PA6/COMP_REF (io), 7 VSS (power), 8 VDD (power), 9 PD0/TIM3_CH2/COMP1_CH3 (io), 10 PD1/TIM3_TRIG/COMP1_CH4 (io), 11 PD2/COMP2_CH3 (io), 12 PD3/COMP2_CH4 (io), 13 PB0/TIM2_CH1/COMP1_CH1 (io), 14 PB1/TIM3_CH1/COMP1_CH2 (io), 15 PB2/TIM2_CH2/COMP2_CH1 (io), 16 PB3/TIM2_TRIG/COMP2_CH2 (io), 17 PB4/SPI_NSS (io), 18 PB5/SPI_SCK (io), 19 PB6/SPI_MOSI (io), 20 PB7/SPI_MISO (io), 21 PD4 (io), 22 PD5 (io), 23 PD6 (io), 24 PD7 (io), 25 PC0/I2C_SDA (io), 26 PC1/I2C_SCL (io), 27 PC2/USART_RX (io), 28 PC3/USART_TX (io), 29 PC4/USART_CK/CCO (io), 30 PC5 (io), 31 PC6 (io), 32 PA0/SWIM/BEEP/IR_TIM (io), 33 EP (power)

## STM8L151C4T3
designator U?
STM8L ARM-based EnergyLite 8-bit MCU, 16 kB Flash, 2 kB Internal RAM, -40 to +125癈 Temperature, 48-pin LQFP, Tray; 封装库来自淘宝卖家ID：黄晶宝石: 其他店铺购入均为盗版假冒封装库; PackageVersion: rev13, Apr-2011; PackageReference: LQFP48; PackageDescription: 48-Pin Low-Profile Quad Flat Pack, 7 x 7 mm Body, 0.5 mm Pitch (LQFP48); ComponentLink1Description: Manufacturer URL; ComponentLink1URL: http://www.st.com/; ComponentLink2Description: STM8L151/152,x4,x6 Datasheet; ComponentLink2URL: http://www.st.com/internet/com/TECHNICAL_RESOURCES/TECHNICAL_LITERATURE/DATASHEET/CD00240181.pdf; ComponentLink3Description: STM8L Family Web Page; ComponentLink3URL: http://www.st.com/internet/mcu/subclass/1381.jsp
footprint LQFP48_N (Manufacturer "STMicroelectronics" not found)
footprint LQFP48_L (Thin QFP, 48-Leads, Body 7x7mm, Pitch 0.5mm, IPC High Density)
footprint LQFP48_M (Thin QFP, 48-Leads, Body 7x7mm, Pitch 0.5mm, IPC Low Density)
pins: 1 PA0 (io), 2 NRST/PA1 (io), 3 PA2 (io), 4 PA3 (io), 5 PA4 (io), 6 PA5 (io), 7 PA6 (io), 8 PA7 (io), 9 VSS1/VSSA/VREF- (power), 10 VDD1 (power), 11 VDDA (power), 12 VREF+ (power), 13 RES "Connect to VDD", 14 PE0 (io), 15 PE1 (io), 16 PE2 (io), 17 PE3 (io), 18 PE4 (io), 19 PE5 (io), 20 PD0 (io), 21 PD1 (io), 22 PD2 (io), 23 PD3 (io), 24 PB0 (io), 25 PB1 (io), 26 PB2 (io), 27 PB3 (io), 28 PB4 (io), 29 PB5 (io), 30 PB6 (io), 31 PB7 (io), 32 PF0 (io), 33 PD4 (io), 34 PD5 (io), 35 PD6 (io), 36 PD7 (io), 37 PC0 (io), 38 PC1 (io), 39 VDD2 (power), 40 VSS2 (power), 41 PC2 (io), 42 PC3 (io), 43 PC4 (io), 44 PC5 (io), 45 PC6 (io), 46 PC7 (io), 47 PE6 (io), 48 PE7 (io)

## STM8L151C4T6
designator U?
STM8L ARM-based EnergyLite 8-bit MCU, 16 kB Flash, 2 kB Internal RAM, -40 to +85癈 Temperature, 48-pin LQFP, Tray; 封装库来自淘宝卖家ID：黄晶宝石: 其他店铺购入均为盗版假冒封装库; PackageVersion: rev13, Apr-2011; PackageReference: LQFP48; PackageDescription: 48-Pin Low-Profile Quad Flat Pack, 7 x 7 mm Body, 0.5 mm Pitch (LQFP48); ComponentLink1Description: Manufacturer URL; ComponentLink1URL: http://www.st.com/; ComponentLink2Description: STM8L151/152,x4,x6 Datasheet; ComponentLink2URL: http://www.st.com/internet/com/TECHNICAL_RESOURCES/TECHNICAL_LITERATURE/DATASHEET/CD00240181.pdf; ComponentLink3Description: STM8L Family Web Page; ComponentLink3URL: http://www.st.com/internet/mcu/subclass/1381.jsp
footprint LQFP48_N (Manufacturer "STMicroelectronics" not found)
footprint LQFP48_L (Thin QFP, 48-Leads, Body 7x7mm, Pitch 0.5mm, IPC High Density)
footprint LQFP48_M (Thin QFP, 48-Leads, Body 7x7mm, Pitch 0.5mm, IPC Low Density)
pins: 1 PA0 (io), 2 NRST/PA1 (io), 3 PA2 (io), 4 PA3 (io), 5 PA4 (io), 6 PA5 (io), 7 PA6 (io), 8 PA7 (io), 9 VSS1/VSSA/VREF- (power), 10 VDD1 (power), 11 VDDA (power), 12 VREF+ (power), 13 RES "Connect to VDD", 14 PE0 (io), 15 PE1 (io), 16 PE2 (io), 17 PE3 (io), 18 PE4 (io), 19 PE5 (io), 20 PD0 (io), 21 PD1 (io), 22 PD2 (io), 23 PD3 (io), 24 PB0 (io), 25 PB1 (io), 26 PB2 (io), 27 PB3 (io), 28 PB4 (io), 29 PB5 (io), 30 PB6 (io), 31 PB7 (io), 32 PF0 (io), 33 PD4 (io), 34 PD5 (io), 35 PD6 (io), 36 PD7 (io), 37 PC0 (io), 38 PC1 (io), 39 VDD2 (power), 40 VSS2 (power), 41 PC2 (io), 42 PC3 (io), 43 PC4 (io), 44 PC5 (io), 45 PC6 (io), 46 PC7 (io), 47 PE6 (io), 48 PE7 (io)

## STM8L151C4T6BGT
designator U?
STM8L ARM-based EnergyLite 8-bit MCU, 16 kB Flash, 2 kB Internal RAM, -40 to +85癈 Temperature, 48-pin LQFP, Tray; 封装库来自淘宝卖家ID：黄晶宝石: 其他店铺购入均为盗版假冒封装库; PackageVersion: rev13, Apr-2011; PackageReference: LQFP48; PackageDescription: 48-Pin Low-Profile Quad Flat Pack, 7 x 7 mm Body, 0.5 mm Pitch (LQFP48); ComponentLink1Description: Manufacturer URL; ComponentLink1URL: http://www.st.com/; ComponentLink2Description: STM8L151/152,x4,x6 Datasheet; ComponentLink2URL: http://www.st.com/internet/com/TECHNICAL_RESOURCES/TECHNICAL_LITERATURE/DATASHEET/CD00240181.pdf; ComponentLink3Description: STM8L Family Web Page; ComponentLink3URL: http://www.st.com/internet/mcu/subclass/1381.jsp
footprint LQFP48_N (Manufacturer "STMicroelectronics" not found)
footprint LQFP48_L (Thin QFP, 48-Leads, Body 7x7mm, Pitch 0.5mm, IPC High Density)
footprint LQFP48_M (Thin QFP, 48-Leads, Body 7x7mm, Pitch 0.5mm, IPC Low Density)
pins: 1 PA0 (io), 2 NRST/PA1 (io), 3 PA2 (io), 4 PA3 (io), 5 PA4 (io), 6 PA5 (io), 7 PA6 (io), 8 PA7 (io), 9 VSS1/VSSA/VREF- (power), 10 VDD1 (power), 11 VDDA (power), 12 VREF+ (power), 13 RES "Connect to VDD", 14 PE0 (io), 15 PE1 (io), 16 PE2 (io), 17 PE3 (io), 18 PE4 (io), 19 PE5 (io), 20 PD0 (io), 21 PD1 (io), 22 PD2 (io), 23 PD3 (io), 24 PB0 (io), 25 PB1 (io), 26 PB2 (io), 27 PB3 (io), 28 PB4 (io), 29 PB5 (io), 30 PB6 (io), 31 PB7 (io), 32 PF0 (io), 33 PD4 (io), 34 PD5 (io), 35 PD6 (io), 36 PD7 (io), 37 PC0 (io), 38 PC1 (io), 39 VDD2 (power), 40 VSS2 (power), 41 PC2 (io), 42 PC3 (io), 43 PC4 (io), 44 PC5 (io), 45 PC6 (io), 46 PC7 (io), 47 PE6 (io), 48 PE7 (io)

## STM8L151C4T6TR
designator U?
STM8L ARM-based EnergyLite 8-bit MCU, 16 kB Flash, 2 kB Internal RAM, -40 to +85癈 Temperature, 48-pin LQFP, Tape and Reel; 封装库来自淘宝卖家ID：黄晶宝石: 其他店铺购入均为盗版假冒封装库; PackageVersion: rev13, Apr-2011; PackageReference: LQFP48; PackageDescription: 48-Pin Low-Profile Quad Flat Pack, 7 x 7 mm Body, 0.5 mm Pitch (LQFP48); ComponentLink1Description: Manufacturer URL; ComponentLink1URL: http://www.st.com/; ComponentLink2Description: STM8L151/152,x4,x6 Datasheet; ComponentLink2URL: http://www.st.com/internet/com/TECHNICAL_RESOURCES/TECHNICAL_LITERATURE/DATASHEET/CD00240181.pdf; ComponentLink3Description: STM8L Family Web Page; ComponentLink3URL: http://www.st.com/internet/mcu/subclass/1381.jsp
footprint LQFP48_N (Manufacturer "STMicroelectronics" not found)
footprint LQFP48_L (Thin QFP, 48-Leads, Body 7x7mm, Pitch 0.5mm, IPC High Density)
footprint LQFP48_M (Thin QFP, 48-Leads, Body 7x7mm, Pitch 0.5mm, IPC Low Density)
pins: 1 PA0 (io), 2 NRST/PA1 (io), 3 PA2 (io), 4 PA3 (io), 5 PA4 (io), 6 PA5 (io), 7 PA6 (io), 8 PA7 (io), 9 VSS1/VSSA/VREF- (power), 10 VDD1 (power), 11 VDDA (power), 12 VREF+ (power), 13 RES "Connect to VDD", 14 PE0 (io), 15 PE1 (io), 16 PE2 (io), 17 PE3 (io), 18 PE4 (io), 19 PE5 (io), 20 PD0 (io), 21 PD1 (io), 22 PD2 (io), 23 PD3 (io), 24 PB0 (io), 25 PB1 (io), 26 PB2 (io), 27 PB3 (io), 28 PB4 (io), 29 PB5 (io), 30 PB6 (io), 31 PB7 (io), 32 PF0 (io), 33 PD4 (io), 34 PD5 (io), 35 PD6 (io), 36 PD7 (io), 37 PC0 (io), 38 PC1 (io), 39 VDD2 (power), 40 VSS2 (power), 41 PC2 (io), 42 PC3 (io), 43 PC4 (io), 44 PC5 (io), 45 PC6 (io), 46 PC7 (io), 47 PE6 (io), 48 PE7 (io)

## STM8L151C4U6
designator U?
STM8L ARM-based EnergyLite 8-bit MCU, 16 kB Flash, 2 kB Internal RAM, -40 to +85癈 Temperature, 48-pin UFQFPN, Tray; 封装库来自淘宝卖家ID：黄晶宝石: 其他店铺购入均为盗版假冒封装库; PackageVersion: 2011; PackageReference: UFQFPN48; PackageDescription: 48-Pin Ultra Thin Fine Pitch Quad Flat No-Lead, 7 x 7 x 0.55 mm Body, 0.5 mm Pitch, Exposed Pad; ComponentLink1Description: Manufacturer URL; ComponentLink1URL: http://www.st.com/; ComponentLink2Description: STM8L151/152,x4,x6 Datasheet; ComponentLink2URL: http://www.st.com/internet/com/TECHNICAL_RESOURCES/TECHNICAL_LITERATURE/DATASHEET/CD00240181.pdf; ComponentLink3Description: STM8L Family Web Page; ComponentLink3URL: http://www.st.com/internet/mcu/subclass/1381.jsp
footprint UFQFPN48_N (Manufacturer "STMicroelectronics" not found)
footprint UFQFPN48_L (QFN, 48-Leads, Body 7x7mm, Pitch 0.5mm, Thermal Pad 5.6x5.6mm, IPC High Density)
footprint UFQFPN48_M (QFN, 48-Leads, Body 7x7mm, Pitch 0.5mm, Thermal Pad 5.6x5.6mm, IPC Low Density)
pins: 1 PA0 (io), 2 NRST/PA1 (io), 3 PA2 (io), 4 PA3 (io), 5 PA4 (io), 6 PA5 (io), 7 PA6 (io), 8 PA7 (io), 9 VSS1/VSSA/VREF- (power), 10 VDD1 (power), 11 VDDA (power), 12 VREF+ (power), 13 RES "Connect to VDD", 14 PE0 (io), 15 PE1 (io), 16 PE2 (io), 17 PE3 (io), 18 PE4 (io), 19 PE5 (io), 20 PD0 (io), 21 PD1 (io), 22 PD2 (io), 23 PD3 (io), 24 PB0 (io), 25 PB1 (io), 26 PB2 (io), 27 PB3 (io), 28 PB4 (io), 29 PB5 (io), 30 PB6 (io), 31 PB7 (io), 32 PF0 (io), 33 PD4 (io), 34 PD5 (io), 35 PD6 (io), 36 PD7 (io), 37 PC0 (io), 38 PC1 (io), 39 VDD2 (power), 40 VSS2 (power), 41 PC2 (io), 42 PC3 (io), 43 PC4 (io), 44 PC5 (io), 45 PC6 (io), 46 PC7 (io), 47 PE6 (io), 48 PE7 (io), 49 EP (power)

## STM8L151C6T3
designator U?
STM8L ARM-based EnergyLite 8-bit MCU, 32 kB Flash, 2 kB Internal RAM, -40 to +125癈 Temperature, 48-pin LQFP, Tray; 封装库来自淘宝卖家ID：黄晶宝石: 其他店铺购入均为盗版假冒封装库; PackageVersion: rev13, Apr-2011; PackageReference: LQFP48; PackageDescription: 48-Pin Low-Profile Quad Flat Pack, 7 x 7 mm Body, 0.5 mm Pitch (LQFP48); ComponentLink1Description: Manufacturer URL; ComponentLink1URL: http://www.st.com/; ComponentLink2Description: STM8L151/152,x4,x6 Datasheet; ComponentLink2URL: http://www.st.com/internet/com/TECHNICAL_RESOURCES/TECHNICAL_LITERATURE/DATASHEET/CD00240181.pdf; ComponentLink3Description: STM8L Family Web Page; ComponentLink3URL: http://www.st.com/internet/mcu/subclass/1381.jsp
footprint LQFP48_N (Manufacturer "STMicroelectronics" not found)
footprint LQFP48_L (Thin QFP, 48-Leads, Body 7x7mm, Pitch 0.5mm, IPC High Density)
footprint LQFP48_M (Thin QFP, 48-Leads, Body 7x7mm, Pitch 0.5mm, IPC Low Density)
pins: 1 PA0 (io), 2 NRST/PA1 (io), 3 PA2 (io), 4 PA3 (io), 5 PA4 (io), 6 PA5 (io), 7 PA6 (io), 8 PA7 (io), 9 VSS1/VSSA/VREF- (power), 10 VDD1 (power), 11 VDDA (power), 12 VREF+ (power), 13 RES "Connect to VDD", 14 PE0 (io), 15 PE1 (io), 16 PE2 (io), 17 PE3 (io), 18 PE4 (io), 19 PE5 (io), 20 PD0 (io), 21 PD1 (io), 22 PD2 (io), 23 PD3 (io), 24 PB0 (io), 25 PB1 (io), 26 PB2 (io), 27 PB3 (io), 28 PB4 (io), 29 PB5 (io), 30 PB6 (io), 31 PB7 (io), 32 PF0 (io), 33 PD4 (io), 34 PD5 (io), 35 PD6 (io), 36 PD7 (io), 37 PC0 (io), 38 PC1 (io), 39 VDD2 (power), 40 VSS2 (power), 41 PC2 (io), 42 PC3 (io), 43 PC4 (io), 44 PC5 (io), 45 PC6 (io), 46 PC7 (io), 47 PE6 (io), 48 PE7 (io)

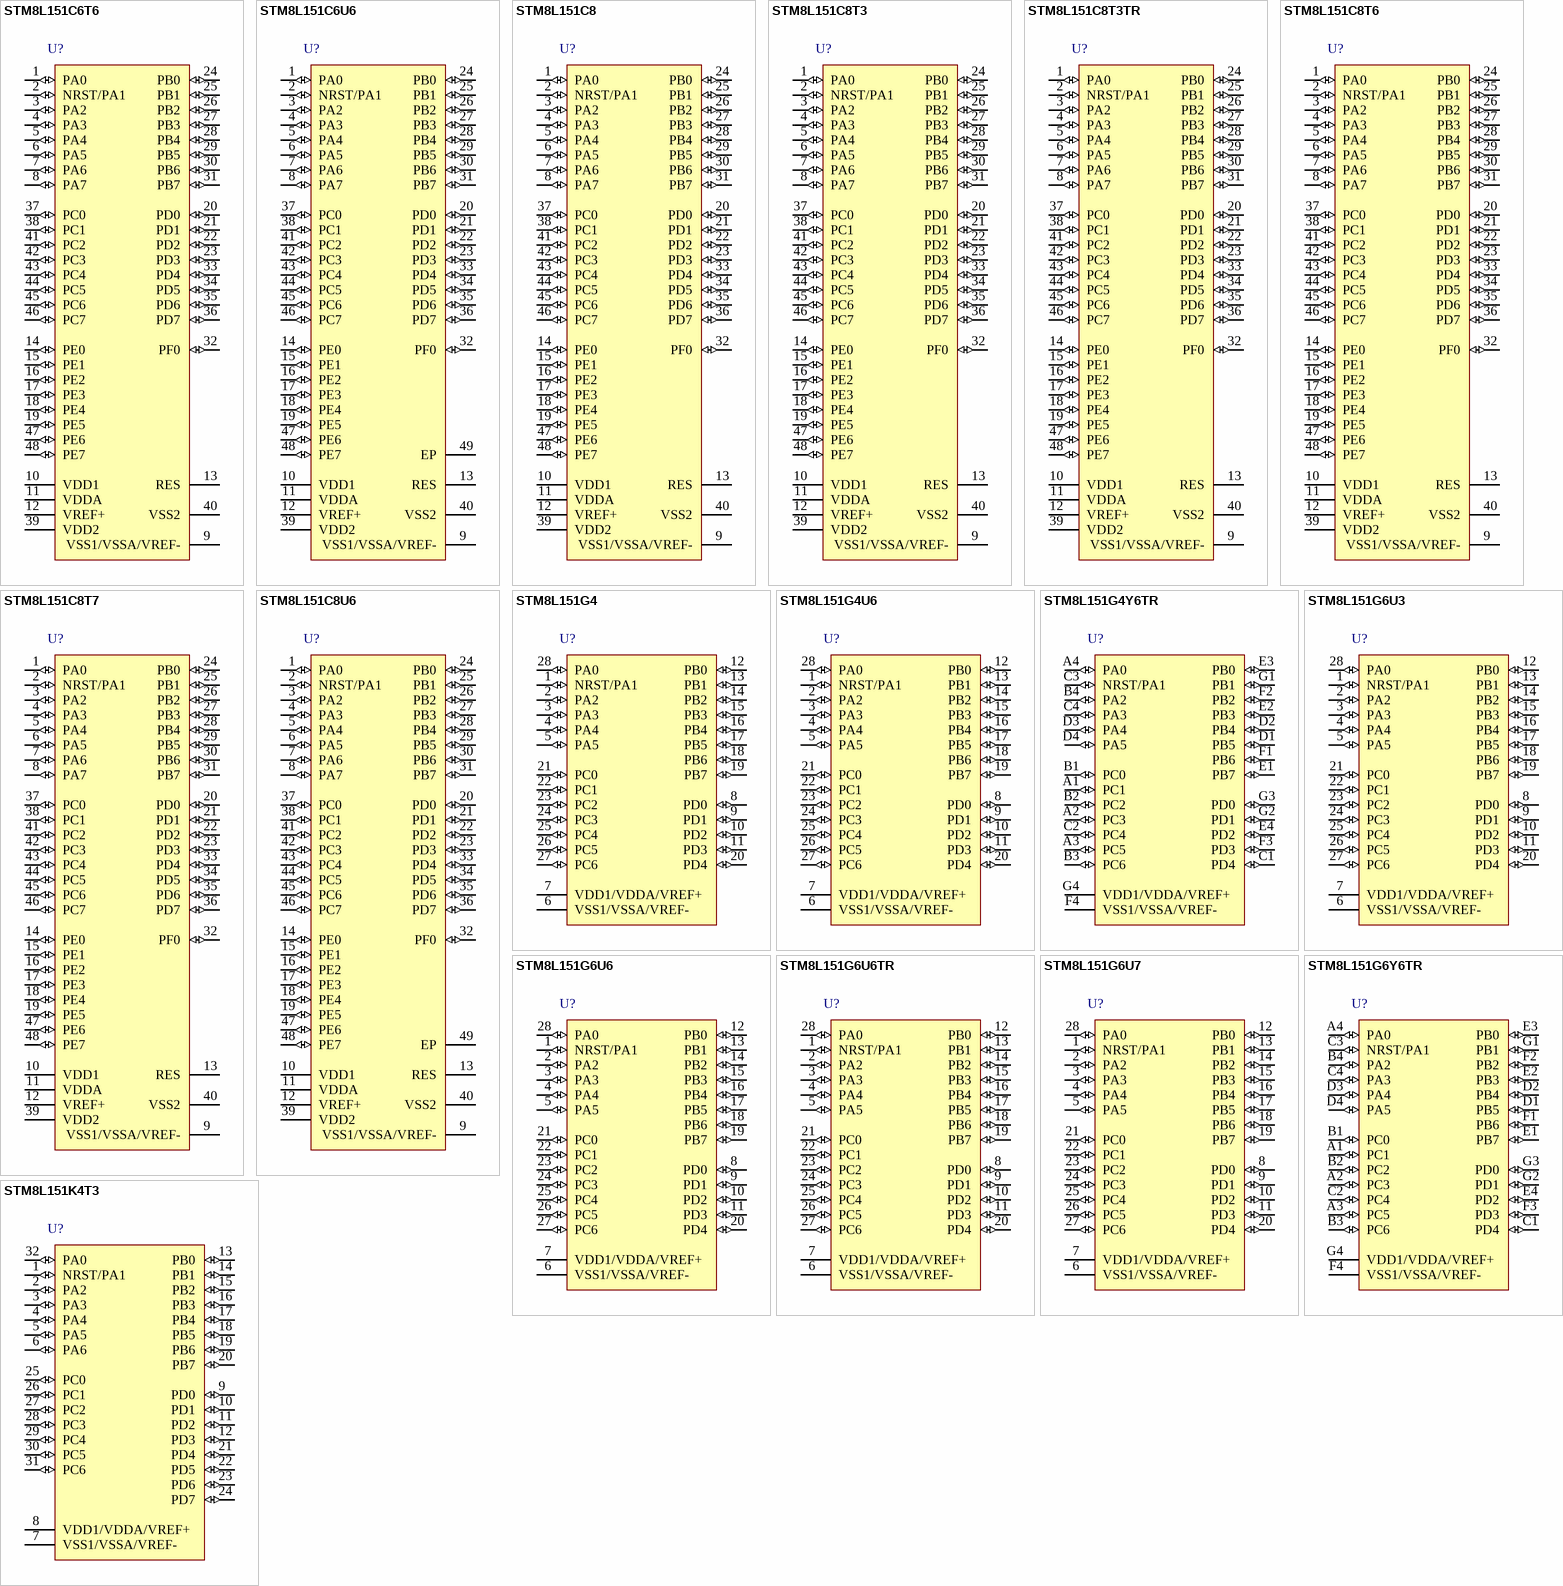
[diagram p2: symbols STM8L151C6T6 to STM8L151K4T3]

## STM8L151C6T6
designator U?
STM8L ARM-based EnergyLite 8-bit MCU, 32 kB Flash, 2 kB Internal RAM, -40 to +85癈 Temperature, 48-pin LQFP, Tray; 封装库来自淘宝卖家ID：黄晶宝石: 其他店铺购入均为盗版假冒封装库; PackageVersion: rev13, Apr-2011; PackageReference: LQFP48; PackageDescription: 48-Pin Low-Profile Quad Flat Pack, 7 x 7 mm Body, 0.5 mm Pitch (LQFP48); ComponentLink1Description: Manufacturer URL; ComponentLink1URL: http://www.st.com/; ComponentLink2Description: STM8L151/152,x4,x6 Datasheet; ComponentLink2URL: http://www.st.com/internet/com/TECHNICAL_RESOURCES/TECHNICAL_LITERATURE/DATASHEET/CD00240181.pdf; ComponentLink3Description: STM8L Family Web Page; ComponentLink3URL: http://www.st.com/internet/mcu/subclass/1381.jsp
footprint LQFP48_N (Manufacturer "STMicroelectronics" not found)
footprint LQFP48_L (Thin QFP, 48-Leads, Body 7x7mm, Pitch 0.5mm, IPC High Density)
footprint LQFP48_M (Thin QFP, 48-Leads, Body 7x7mm, Pitch 0.5mm, IPC Low Density)
pins: 1 PA0 (io), 2 NRST/PA1 (io), 3 PA2 (io), 4 PA3 (io), 5 PA4 (io), 6 PA5 (io), 7 PA6 (io), 8 PA7 (io), 9 VSS1/VSSA/VREF- (power), 10 VDD1 (power), 11 VDDA (power), 12 VREF+ (power), 13 RES "Connect to VDD", 14 PE0 (io), 15 PE1 (io), 16 PE2 (io), 17 PE3 (io), 18 PE4 (io), 19 PE5 (io), 20 PD0 (io), 21 PD1 (io), 22 PD2 (io), 23 PD3 (io), 24 PB0 (io), 25 PB1 (io), 26 PB2 (io), 27 PB3 (io), 28 PB4 (io), 29 PB5 (io), 30 PB6 (io), 31 PB7 (io), 32 PF0 (io), 33 PD4 (io), 34 PD5 (io), 35 PD6 (io), 36 PD7 (io), 37 PC0 (io), 38 PC1 (io), 39 VDD2 (power), 40 VSS2 (power), 41 PC2 (io), 42 PC3 (io), 43 PC4 (io), 44 PC5 (io), 45 PC6 (io), 46 PC7 (io), 47 PE6 (io), 48 PE7 (io)

## STM8L151C6U6
designator U?
STM8L ARM-based EnergyLite 8-bit MCU, 32 kB Flash, 2 kB Internal RAM, -40 to +85癈 Temperature, 48-pin UFQFPN, Tray; 封装库来自淘宝卖家ID：黄晶宝石: 其他店铺购入均为盗版假冒封装库; PackageVersion: 2011; PackageReference: UFQFPN48; PackageDescription: 48-Pin Ultra Thin Fine Pitch Quad Flat No-Lead, 7 x 7 x 0.55 mm Body, 0.5 mm Pitch, Exposed Pad; ComponentLink1Description: Manufacturer URL; ComponentLink1URL: http://www.st.com/; ComponentLink2Description: STM8L151/152,x4,x6 Datasheet; ComponentLink2URL: http://www.st.com/internet/com/TECHNICAL_RESOURCES/TECHNICAL_LITERATURE/DATASHEET/CD00240181.pdf; ComponentLink3Description: STM8L Family Web Page; ComponentLink3URL: http://www.st.com/internet/mcu/subclass/1381.jsp
footprint UFQFPN48_N (Manufacturer "STMicroelectronics" not found)
footprint UFQFPN48_L (QFN, 48-Leads, Body 7x7mm, Pitch 0.5mm, Thermal Pad 5.6x5.6mm, IPC High Density)
footprint UFQFPN48_M (QFN, 48-Leads, Body 7x7mm, Pitch 0.5mm, Thermal Pad 5.6x5.6mm, IPC Low Density)
pins: 1 PA0 (io), 2 NRST/PA1 (io), 3 PA2 (io), 4 PA3 (io), 5 PA4 (io), 6 PA5 (io), 7 PA6 (io), 8 PA7 (io), 9 VSS1/VSSA/VREF- (power), 10 VDD1 (power), 11 VDDA (power), 12 VREF+ (power), 13 RES "Connect to VDD", 14 PE0 (io), 15 PE1 (io), 16 PE2 (io), 17 PE3 (io), 18 PE4 (io), 19 PE5 (io), 20 PD0 (io), 21 PD1 (io), 22 PD2 (io), 23 PD3 (io), 24 PB0 (io), 25 PB1 (io), 26 PB2 (io), 27 PB3 (io), 28 PB4 (io), 29 PB5 (io), 30 PB6 (io), 31 PB7 (io), 32 PF0 (io), 33 PD4 (io), 34 PD5 (io), 35 PD6 (io), 36 PD7 (io), 37 PC0 (io), 38 PC1 (io), 39 VDD2 (power), 40 VSS2 (power), 41 PC2 (io), 42 PC3 (io), 43 PC4 (io), 44 PC5 (io), 45 PC6 (io), 46 PC7 (io), 47 PE6 (io), 48 PE7 (io), 49 EP (power)

## STM8L151C8
designator U?
STM8L ARM-based EnergyLite 8-bit MCU, 64 kB Flash, 4 kB Internal RAM, 48-pin LQFP; 封装库来自淘宝卖家ID：黄晶宝石: 其他店铺购入均为盗版假冒封装库; PackageVersion: rev13, Apr-2011; PackageReference: LQFP48; PackageDescription: 48-Pin Low-Profile Quad Flat Pack, 7 x 7 mm Body, 0.5 mm Pitch (LQFP48); ComponentLink1Description: Manufacturer URL; ComponentLink1URL: http://www.st.com/; ComponentLink2Description: STM8L151/152,x8,R6 Datasheet; ComponentLink2URL: http://www.st.com/internet/com/TECHNICAL_RESOURCES/TECHNICAL_LITERATURE/DATASHEET/CD00284933.pdf; ComponentLink3Description: STM8L Family Web Page; ComponentLink3URL: http://www.st.com/internet/mcu/subclass/1381.jsp
footprint LQFP48_N (Manufacturer "STMicroelectronics" not found)
footprint LQFP48_L (Thin QFP, 48-Leads, Body 7x7mm, Pitch 0.5mm, IPC High Density)
footprint LQFP48_M (Thin QFP, 48-Leads, Body 7x7mm, Pitch 0.5mm, IPC Low Density)
pins: 1 PA0 (io), 2 NRST/PA1 (io), 3 PA2 (io), 4 PA3 (io), 5 PA4 (io), 6 PA5 (io), 7 PA6 (io), 8 PA7 (io), 9 VSS1/VSSA/VREF- (power), 10 VDD1 (power), 11 VDDA (power), 12 VREF+ (power), 13 RES "Connect to VDD", 14 PE0 (io), 15 PE1 (io), 16 PE2 (io), 17 PE3 (io), 18 PE4 (io), 19 PE5 (io), 20 PD0 (io), 21 PD1 (io), 22 PD2 (io), 23 PD3 (io), 24 PB0 (io), 25 PB1 (io), 26 PB2 (io), 27 PB3 (io), 28 PB4 (io), 29 PB5 (io), 30 PB6 (io), 31 PB7 (io), 32 PF0 (io), 33 PD4 (io), 34 PD5 (io), 35 PD6 (io), 36 PD7 (io), 37 PC0 (io), 38 PC1 (io), 39 VDD2 (power), 40 VSS2 (power), 41 PC2 (io), 42 PC3 (io), 43 PC4 (io), 44 PC5 (io), 45 PC6 (io), 46 PC7 (io), 47 PE6 (io), 48 PE7 (io)

## STM8L151C8T3
designator U?
STM8L ARM-based EnergyLite 8-bit MCU, 64 kB Flash, 4 kB Internal RAM, -40 to +125癈 Temperature, 48-pin LQFP, Tray; 封装库来自淘宝卖家ID：黄晶宝石: 其他店铺购入均为盗版假冒封装库; PackageVersion: rev13, Apr-2011; PackageReference: LQFP48; PackageDescription: 48-Pin Low-Profile Quad Flat Pack, 7 x 7 mm Body, 0.5 mm Pitch (LQFP48); ComponentLink1Description: Manufacturer URL; ComponentLink1URL: http://www.st.com/; ComponentLink2Description: STM8L151/152,x8,R6 Datasheet; ComponentLink2URL: http://www.st.com/internet/com/TECHNICAL_RESOURCES/TECHNICAL_LITERATURE/DATASHEET/CD00284933.pdf; ComponentLink3Description: STM8L Family Web Page; ComponentLink3URL: http://www.st.com/internet/mcu/subclass/1381.jsp
footprint LQFP48_N (Manufacturer "STMicroelectronics" not found)
footprint LQFP48_L (Thin QFP, 48-Leads, Body 7x7mm, Pitch 0.5mm, IPC High Density)
footprint LQFP48_M (Thin QFP, 48-Leads, Body 7x7mm, Pitch 0.5mm, IPC Low Density)
pins: 1 PA0 (io), 2 NRST/PA1 (io), 3 PA2 (io), 4 PA3 (io), 5 PA4 (io), 6 PA5 (io), 7 PA6 (io), 8 PA7 (io), 9 VSS1/VSSA/VREF- (power), 10 VDD1 (power), 11 VDDA (power), 12 VREF+ (power), 13 RES "Connect to VDD", 14 PE0 (io), 15 PE1 (io), 16 PE2 (io), 17 PE3 (io), 18 PE4 (io), 19 PE5 (io), 20 PD0 (io), 21 PD1 (io), 22 PD2 (io), 23 PD3 (io), 24 PB0 (io), 25 PB1 (io), 26 PB2 (io), 27 PB3 (io), 28 PB4 (io), 29 PB5 (io), 30 PB6 (io), 31 PB7 (io), 32 PF0 (io), 33 PD4 (io), 34 PD5 (io), 35 PD6 (io), 36 PD7 (io), 37 PC0 (io), 38 PC1 (io), 39 VDD2 (power), 40 VSS2 (power), 41 PC2 (io), 42 PC3 (io), 43 PC4 (io), 44 PC5 (io), 45 PC6 (io), 46 PC7 (io), 47 PE6 (io), 48 PE7 (io)

## STM8L151C8T3TR
designator U?
STM8L ARM-based EnergyLite 8-bit MCU, 64 kB Flash, 4 kB Internal RAM, -40 to +125癈 Temperature, 48-pin LQFP, Tape and Reel; 封装库来自淘宝卖家ID：黄晶宝石: 其他店铺购入均为盗版假冒封装库; PackageVersion: rev13, Apr-2011; PackageReference: LQFP48; PackageDescription: 48-Pin Low-Profile Quad Flat Pack, 7 x 7 mm Body, 0.5 mm Pitch (LQFP48); ComponentLink1Description: Manufacturer URL; ComponentLink1URL: http://www.st.com/; ComponentLink2Description: STM8L151/152,x8,R6 Datasheet; ComponentLink2URL: http://www.st.com/internet/com/TECHNICAL_RESOURCES/TECHNICAL_LITERATURE/DATASHEET/CD00284933.pdf; ComponentLink3Description: STM8L Family Web Page; ComponentLink3URL: http://www.st.com/internet/mcu/subclass/1381.jsp
footprint LQFP48_N (Manufacturer "STMicroelectronics" not found)
footprint LQFP48_L (Thin QFP, 48-Leads, Body 7x7mm, Pitch 0.5mm, IPC High Density)
footprint LQFP48_M (Thin QFP, 48-Leads, Body 7x7mm, Pitch 0.5mm, IPC Low Density)
pins: 1 PA0 (io), 2 NRST/PA1 (io), 3 PA2 (io), 4 PA3 (io), 5 PA4 (io), 6 PA5 (io), 7 PA6 (io), 8 PA7 (io), 9 VSS1/VSSA/VREF- (power), 10 VDD1 (power), 11 VDDA (power), 12 VREF+ (power), 13 RES "Connect to VDD", 14 PE0 (io), 15 PE1 (io), 16 PE2 (io), 17 PE3 (io), 18 PE4 (io), 19 PE5 (io), 20 PD0 (io), 21 PD1 (io), 22 PD2 (io), 23 PD3 (io), 24 PB0 (io), 25 PB1 (io), 26 PB2 (io), 27 PB3 (io), 28 PB4 (io), 29 PB5 (io), 30 PB6 (io), 31 PB7 (io), 32 PF0 (io), 33 PD4 (io), 34 PD5 (io), 35 PD6 (io), 36 PD7 (io), 37 PC0 (io), 38 PC1 (io), 39 VDD2 (power), 40 VSS2 (power), 41 PC2 (io), 42 PC3 (io), 43 PC4 (io), 44 PC5 (io), 45 PC6 (io), 46 PC7 (io), 47 PE6 (io), 48 PE7 (io)

## STM8L151C8T6
designator U?
STM8L ARM-based EnergyLite 8-bit MCU, 64 kB Flash, 4 kB Internal RAM, -40 to +85癈 Temperature, 48-pin LQFP, Tray; 封装库来自淘宝卖家ID：黄晶宝石: 其他店铺购入均为盗版假冒封装库; PackageVersion: rev13, Apr-2011; PackageReference: LQFP48; PackageDescription: 48-Pin Low-Profile Quad Flat Pack, 7 x 7 mm Body, 0.5 mm Pitch (LQFP48); ComponentLink1URL: http://www.st.com/; ComponentLink2Description: STM8L151/152,x8,R6 Datasheet; ComponentLink2URL: http://www.st.com/internet/com/TECHNICAL_RESOURCES/TECHNICAL_LITERATURE/DATASHEET/CD00284933.pdf; ComponentLink3Description: STM8L Family Web Page; ComponentLink3URL: http://www.st.com/internet/mcu/subclass/1381.jsp; ComponentLink1Description: Manufacturer URL
footprint LQFP48_N (Manufacturer "STMicroelectronics" not found)
footprint LQFP48_L (Thin QFP, 48-Leads, Body 7x7mm, Pitch 0.5mm, IPC High Density)
footprint LQFP48_M (Thin QFP, 48-Leads, Body 7x7mm, Pitch 0.5mm, IPC Low Density)
pins: 1 PA0 (io), 2 NRST/PA1 (io), 3 PA2 (io), 4 PA3 (io), 5 PA4 (io), 6 PA5 (io), 7 PA6 (io), 8 PA7 (io), 9 VSS1/VSSA/VREF- (power), 10 VDD1 (power), 11 VDDA (power), 12 VREF+ (power), 13 RES "Connect to VDD", 14 PE0 (io), 15 PE1 (io), 16 PE2 (io), 17 PE3 (io), 18 PE4 (io), 19 PE5 (io), 20 PD0 (io), 21 PD1 (io), 22 PD2 (io), 23 PD3 (io), 24 PB0 (io), 25 PB1 (io), 26 PB2 (io), 27 PB3 (io), 28 PB4 (io), 29 PB5 (io), 30 PB6 (io), 31 PB7 (io), 32 PF0 (io), 33 PD4 (io), 34 PD5 (io), 35 PD6 (io), 36 PD7 (io), 37 PC0 (io), 38 PC1 (io), 39 VDD2 (power), 40 VSS2 (power), 41 PC2 (io), 42 PC3 (io), 43 PC4 (io), 44 PC5 (io), 45 PC6 (io), 46 PC7 (io), 47 PE6 (io), 48 PE7 (io)

## STM8L151C8T7
designator U?
STM8L ARM-based EnergyLite 8-bit MCU, 64 kB Flash, 4 kB Internal RAM, -40 to +105癈 Temperature, 48-pin LQFP, Tray; 封装库来自淘宝卖家ID：黄晶宝石: 其他店铺购入均为盗版假冒封装库; PackageVersion: rev13, Apr-2011; PackageReference: LQFP48; PackageDescription: 48-Pin Low-Profile Quad Flat Pack, 7 x 7 mm Body, 0.5 mm Pitch (LQFP48); ComponentLink1Description: Manufacturer URL; ComponentLink1URL: http://www.st.com/; ComponentLink2Description: STM8L151/152,x8,R6 Datasheet; ComponentLink2URL: http://www.st.com/internet/com/TECHNICAL_RESOURCES/TECHNICAL_LITERATURE/DATASHEET/CD00284933.pdf; ComponentLink3Description: STM8L Family Web Page; ComponentLink3URL: http://www.st.com/internet/mcu/subclass/1381.jsp
footprint LQFP48_N (Manufacturer "STMicroelectronics" not found)
footprint LQFP48_L (Thin QFP, 48-Leads, Body 7x7mm, Pitch 0.5mm, IPC High Density)
footprint LQFP48_M (Thin QFP, 48-Leads, Body 7x7mm, Pitch 0.5mm, IPC Low Density)
pins: 1 PA0 (io), 2 NRST/PA1 (io), 3 PA2 (io), 4 PA3 (io), 5 PA4 (io), 6 PA5 (io), 7 PA6 (io), 8 PA7 (io), 9 VSS1/VSSA/VREF- (power), 10 VDD1 (power), 11 VDDA (power), 12 VREF+ (power), 13 RES "Connect to VDD", 14 PE0 (io), 15 PE1 (io), 16 PE2 (io), 17 PE3 (io), 18 PE4 (io), 19 PE5 (io), 20 PD0 (io), 21 PD1 (io), 22 PD2 (io), 23 PD3 (io), 24 PB0 (io), 25 PB1 (io), 26 PB2 (io), 27 PB3 (io), 28 PB4 (io), 29 PB5 (io), 30 PB6 (io), 31 PB7 (io), 32 PF0 (io), 33 PD4 (io), 34 PD5 (io), 35 PD6 (io), 36 PD7 (io), 37 PC0 (io), 38 PC1 (io), 39 VDD2 (power), 40 VSS2 (power), 41 PC2 (io), 42 PC3 (io), 43 PC4 (io), 44 PC5 (io), 45 PC6 (io), 46 PC7 (io), 47 PE6 (io), 48 PE7 (io)

## STM8L151C8U6
designator U?
STM8L ARM-based EnergyLite 8-bit MCU, 64 kB Flash, 4 kB Internal RAM, -40 to +85癈 Temperature, 48-pin UFQFPN, Tray; 封装库来自淘宝卖家ID：黄晶宝石: 其他店铺购入均为盗版假冒封装库; PackageVersion: 2011; PackageReference: UFQFPN48; PackageDescription: 48-Pin Ultra Thin Fine Pitch Quad Flat No-Lead, 7 x 7 x 0.55 mm Body, 0.5 mm Pitch, Exposed Pad; ComponentLink1Description: Manufacturer URL; ComponentLink1URL: http://www.st.com/; ComponentLink2Description: STM8L151/152,x8,R6 Datasheet; ComponentLink2URL: http://www.st.com/internet/com/TECHNICAL_RESOURCES/TECHNICAL_LITERATURE/DATASHEET/CD00284933.pdf; ComponentLink3Description: STM8L Family Web Page; ComponentLink3URL: http://www.st.com/internet/mcu/subclass/1381.jsp
footprint UFQFPN48_N (Manufacturer "STMicroelectronics" not found)
footprint UFQFPN48_L (QFN, 48-Leads, Body 7x7mm, Pitch 0.5mm, Thermal Pad 5.6x5.6mm, IPC High Density)
footprint UFQFPN48_M (QFN, 48-Leads, Body 7x7mm, Pitch 0.5mm, Thermal Pad 5.6x5.6mm, IPC Low Density)
pins: 1 PA0 (io), 2 NRST/PA1 (io), 3 PA2 (io), 4 PA3 (io), 5 PA4 (io), 6 PA5 (io), 7 PA6 (io), 8 PA7 (io), 9 VSS1/VSSA/VREF- (power), 10 VDD1 (power), 11 VDDA (power), 12 VREF+ (power), 13 RES "Connect to VDD", 14 PE0 (io), 15 PE1 (io), 16 PE2 (io), 17 PE3 (io), 18 PE4 (io), 19 PE5 (io), 20 PD0 (io), 21 PD1 (io), 22 PD2 (io), 23 PD3 (io), 24 PB0 (io), 25 PB1 (io), 26 PB2 (io), 27 PB3 (io), 28 PB4 (io), 29 PB5 (io), 30 PB6 (io), 31 PB7 (io), 32 PF0 (io), 33 PD4 (io), 34 PD5 (io), 35 PD6 (io), 36 PD7 (io), 37 PC0 (io), 38 PC1 (io), 39 VDD2 (power), 40 VSS2 (power), 41 PC2 (io), 42 PC3 (io), 43 PC4 (io), 44 PC5 (io), 45 PC6 (io), 46 PC7 (io), 47 PE6 (io), 48 PE7 (io), 49 EP (power)